# Altium integrated library Linear Technology Power Management Hot Swap Controllers.IntLib: 992 symbols (part 72 of 93)
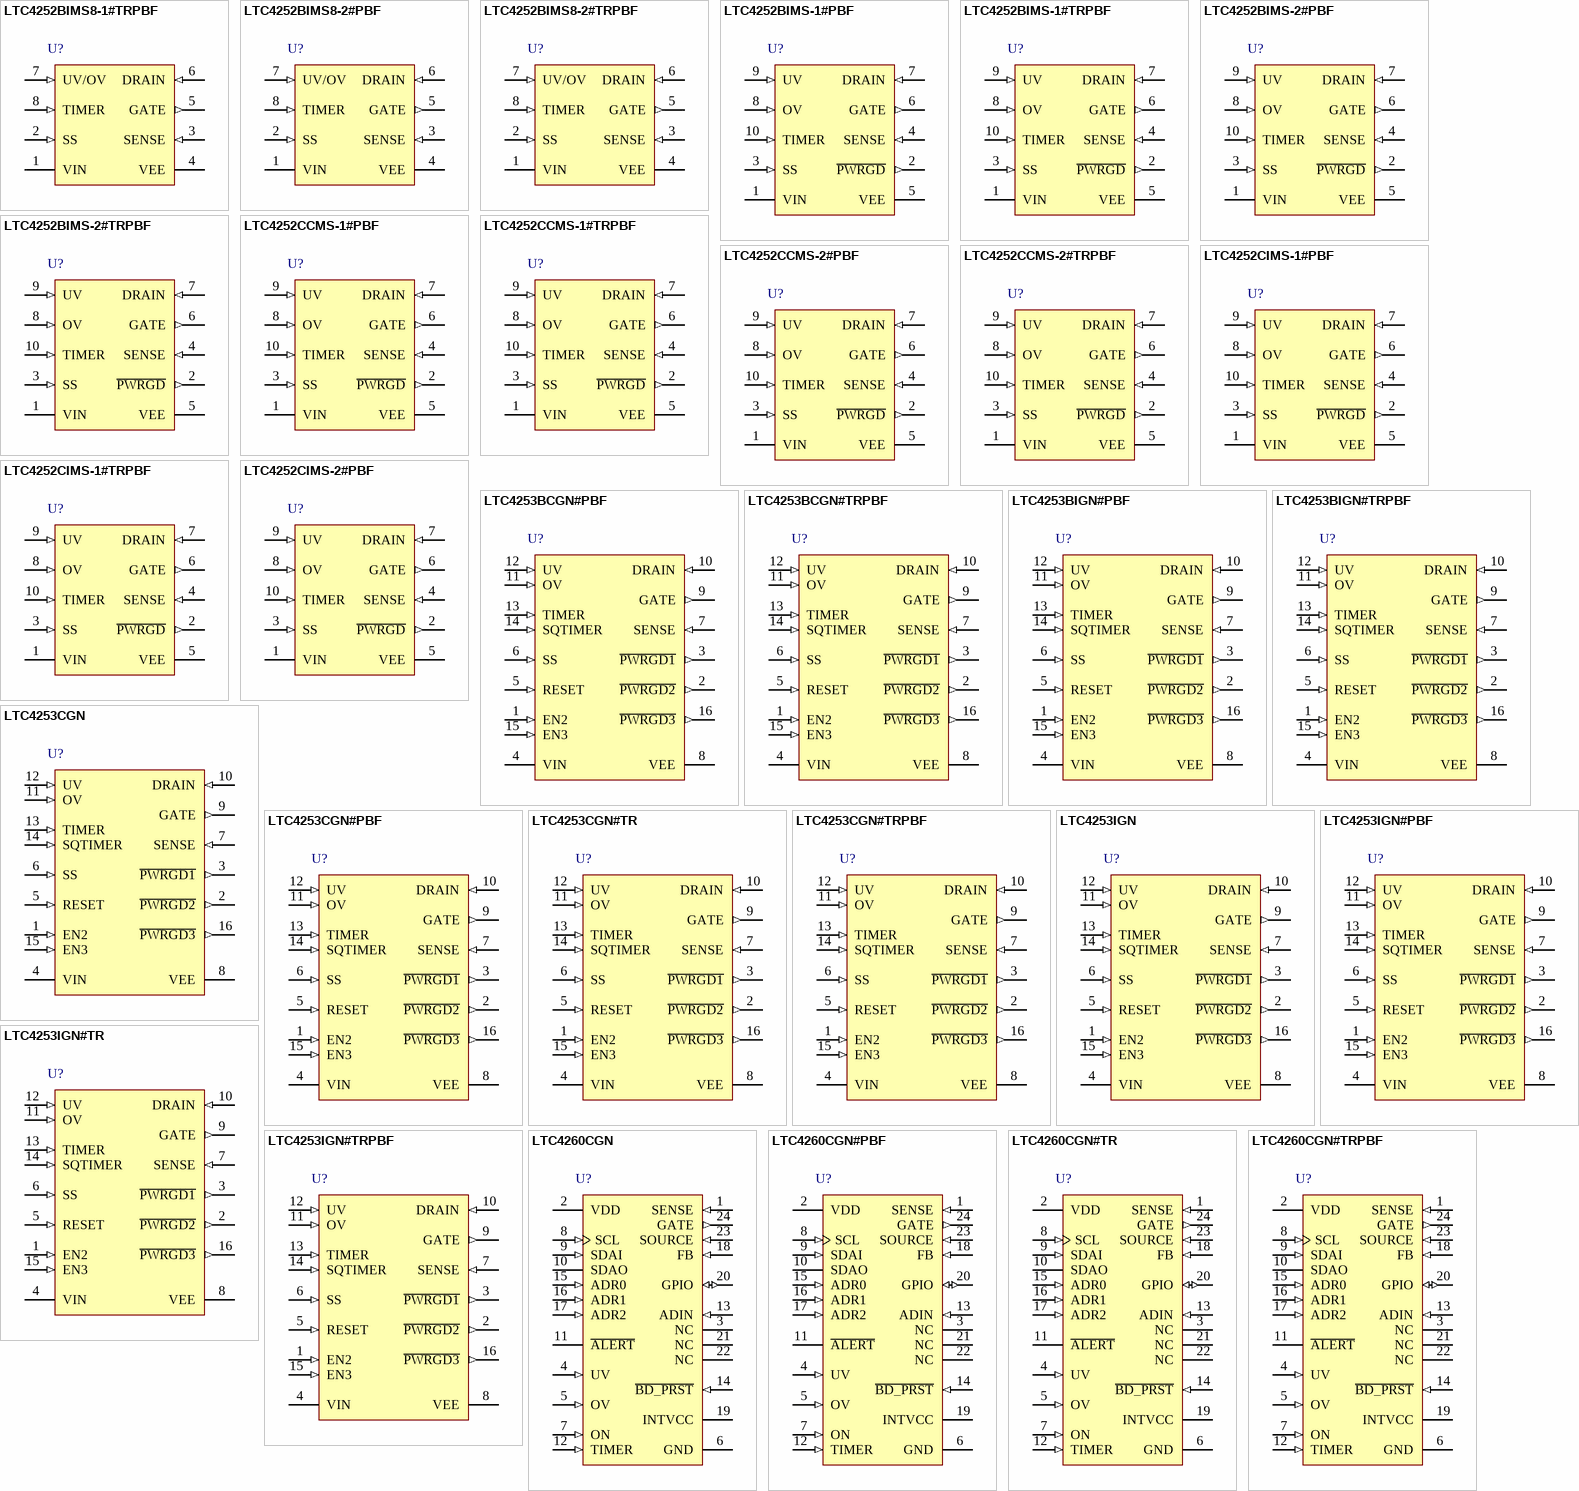
[diagram p108: symbols LTC4252BIMS8-1#TRPBF to LTC4260CGN#TRPBF]

## LTC4252CIMS-2#PBF
designator U?
Negative Voltage Hot Swap Controller, 10-pin SOP (MS-10), -40 to 85 degC, Pb-Free; Manufacturer: Linear Technology; PartNumber: LTC4252CIMS-2#PBF; Active Limiting: yes; Circuit Breaker Accuracy(%): 10; Circuit Breaker Threshold: 50 mV; Circuit Breakers(#): 1; Extended Temp: C, I; In-Rush Current: Active/SS; PackageVersion: Rev. E, 06/2010; PackageReference: MS-10; PackageDescription: 10-Pin Plastic MSOP, Body 3 x 3 mm, Pitch 0.5 mm; Supplier 1: Digi-Key; Supplier Part Number 1: LTC4252CIMS-2#PBF-ND; Supplier 2: Farnell; Supplier Part Number 2: 2097905; Supplier 3: Newark; Supplier Part Number 3: 82T3945; Fast Comparator: yes; Fault: yes; Foldback: yes; Power Good: yes; Reset: yes; RoHS: TRUE; Mounting Technology: Surface Mount; ComponentLink1Description: Manufacturer URL; ComponentLink1URL: http://www.linear.com/; ComponentLink2Description: Datasheet; ComponentLink2URL: http://cds.linear.com/docs/en/datasheet/4252b12f.pdf; ComponentLink3Description: Package Specification; ComponentLink3URL: http://cds.linear.com/docs/en/packaging/05081661_F_MS.pdf
footprint LT-MS-10_N (SOP, 10-Leads, Body 3.1x3.1mm, Pitch 0.5mm, IPC Medium Density)
footprint LT-MS-10_L (SOP, 10-Leads, Body 3.1x3.1mm, Pitch 0.5mm, IPC High Density)
footprint LT-MS-10_M (SOP, 10-Leads, Body 3.1x3.1mm, Pitch 0.5mm, IPC Low Density)
pins: 1 VIN (power) "Positive Supply Input. Connect this pin to the positive side of the supply through a dropping resistor. A shunt regulator clamps VIN at 13V. An internal undervoltage lockout (UVLO) circuit holds GATE low until the VIN pin is (See Datasheet)", 2 ~{PWRGD} (out) "Power Good Status Output (MS only). At start-up, P\W\R\G\D\ latches low if DRAIN is below 2.385V and GATE is within 2.8V of VIN. P\W\R\G\D\ status is reset by UV, VIN (UVLO) or a circuit breaker fault timeout. This pin is (See Datasheet)", 3 SS (in) "Soft-Start Pin. This pin is used to ramp inrush current during start up, thereby effecting control over di/dt. A 20x attenuated version of the SS pin voltage is presented to the current limit amplifier. This attenuated (See Datasheet)", 4 SENSE (in) "Circuit Breaker/Current Limit Sense Pin. Load current is monitored by a sense resistor RS connected between SENSE and VEE, and controlled in three steps. If SENSE exceeds VCB (50mV), the circuit breaker comparator activates (See Datasheet)", 5 VEE (power) "Negative Supply Voltage Input. Connect this pin to the negative side of the power supply.", 6 GATE (out) "N-Channel MOSFET Gate Drive Output. This pin is pulled high by a 58uA current source. GATE is pulled low by invalid conditions at VIN (UVLO), UV, OV, or a circuit breaker fault timeout. GATE is actively servoed to control (See Datasheet)", 7 DRAIN (in) "Drain Sense Input. Connecting an external resistor, RD, between this pin and the MOSFET’s drain (VOUT) allows voltage sensing below 6.15V (5V for LTC4252C) and current feedback to TIMER. A comparator detects if DRAIN i(See Datasheet)", 8 OV (in) "Overvoltage Input. The active high threshold at the OV pin is set at 6.15V with 0.6V hysteresis. If OV > 6.15V, GATE pulls low. When OV returns below 5.55V, GATE start-up begins without an initial timing cycle. The LTC4252C (See Datasheet)", 9 UV (in) "Undervoltage Input. The active low threshold at the UV pin is set at 2.925V with 0.3V hysteresis. If UV < 2.925V, P\W\R\G\D\ pulls high, both GATE and TIMER pull low. If UV rises above 3.225V, this initiates an initial (See Datasheet)", 10 TIMER (in) "Timer Input. TIMER is used to generate an initial timing delay at start-up and to delay shutdown in the event of an output overload (circuit breaker fault). TIMER starts an initial timing cycle when the following conditions (See Datasheet)"

## LTC4253BCGN#PBF
designator U?
-48 V Hot Swap Controller with Sequencer, 16-pin SOP (GN-16), 0 to 70 degC, Pb-Free; Manufacturer: Linear Technology; PartNumber: LTC4253BCGN#PBF; Active Limiting: yes; Circuit Breaker Accuracy(%): 20; Circuit Breaker Threshold: 50 mV; Circuit Breakers(#): 1; Extended Temp: C, I; In-Rush Current: Active/SS; PackageVersion: Rev. B, 03/2012; PackageReference: GN-16; PackageDescription: 16-Pin Plastic SSOP, Body 4.9 x 3.9 mm, Pitch 0.635 mm; Supplier 1: Digi-Key; Supplier Part Number 1: LTC4253BCGN#PBF-ND; Supplier 2: Farnell; Supplier Part Number 2: 2097893; Supplier 3: Newark; Supplier Part Number 3: 82T3947; Fast Comparator: yes; Fault: yes; Foldback: yes; Power Good: yes; Reset: yes; RoHS: TRUE; Mounting Technology: Surface Mount; ComponentLink1Description: Manufacturer URL; ComponentLink1URL: http://www.linear.com/; ComponentLink2Description: Datasheet; ComponentLink2URL: http://cds.linear.com/docs/en/datasheet/4253bf.pdf; ComponentLink3Description: Package Specification; ComponentLink3URL: http://cds.linear.com/docs/en/packaging/05081641_B_GN16.pdf
footprint LT-GN-16_N (SOP, 16-Leads, Body 5x4mm, Pitch 0.635mm, IPC Medium Density)
footprint LT-GN-16_L (SOP, 16-Leads, Body 5x4mm, Pitch 0.635mm, IPC High Density)
footprint LT-GN-16_M (SOP, 16-Leads, Body 5x4mm, Pitch 0.635mm, IPC Low Density)
pins: 1 EN2 (in) "Power Good Status Output Two Enable. This  is a TTL compatible input that is used to control P\W\R\G\D\2\ and P\W\R\G\D\3\ outputs. When EN2 is driven low, both  P\W\R\G\D\2\ and P\W\R\G\D\3\ will go high. When EN2 is driven (See Datasheet)", 2 ~{PWRGD2} (out) "Power Good Status Output Two. Power  good sequence starts with P\W\R\G\D\1\ latching active low.  P\W\R\G\D\2\ will latch active low after EN2 goes high and  after one power good sequence delay tSQT provided by the (See Datasheet)", 3 ~{PWRGD1} (out) "Power Good Status Output One. At startup, P\W\R\G\D\1\ latches active low and starts the power good  sequence when the DRAIN pin is below 2.39V and GATE  is within 2.8V of VIN. P\W\R\G\D\1\ status is reset by UV, VIN (UVLO), (See Datasheet)", 4 VIN (power) "Positive Supply Input. Connect this pin to the positive side of the supply through a dropping resistor. A  shunt regulator clamps VIN at 13V above VEE. An internal  undervoltage lockout (UVLO) circuit holds GATE low until  (See Datasheet)", 5 RESET (in) "Circuit Breaker Reset Pin. This is an asynchronous TTL compatible input. RESET going high will pull GATE, SS, TIMER, SQTIMER lowand the P\W\R\G\D\ outputs  high. The RESET pulse must be wide enough to discharge  any voltage (See Datasheet)", 6 SS (in) "Soft-Start Pin. This pin is used to ramp inrush  current during start up, there by effecting control over di/dt.  A 20X attenuated version of the SS pin voltage is presented  to the current limit amplifier. This attenuated (See Datasheet)", 7 SENSE (in) "Circuit Breaker/Current Limit Sense Pin.  Load current is monitored by a senseresistor RS connected between SENSE and VEE, and controlled in three steps. If SENSE exceeds VCB (50mV), the circuit breaker comparator activates (See Datasheet)", 8 VEE (power) "Negative Supply Voltage Input. Connect this  pin to the negative side of the power supply.", 9 GATE (out) "N-channel MOSFET Gate Drive Output. This  pin is pulled high by a 50uA current source. GATE is pulled  low by invalid conditions at VIN (UVLO), UV, OV, during the  initial timing cycle, a circuit breaker fault time-out or (See Datasheet)", 10 DRAIN (in) "Drain Sense Input. Connecting an external resistor, RD between this pin and the MOSFET’s drain  (VOUT) allows voltage sensing below 6.15V and current  feedback toTIMER. A comparator detects if DRAIN is below 2.39V an(See Datasheet)", 11 OV (in) "Overvoltage Input. For the LTC4253B, the  threshold at the OV pin is set at 6.15V with 0.3V hysteresis.  If OV > 6.15V, GATE pulls low. When OV returns below  5.85V, GATE start-up begins without an initial timing cycle. If (See Datasheet)", 12 UV (in) "Undervoltage Input. For the LTC4253B, the  threshold at the UV pin is set at 3.225V with 0.3V hysteresis. If UV < 2.925V, P\W\R\G\D\1\ pulls high, both GATE and  TIMER pull low. If UV rises above 3.225V, this initiates  an (See Datasheet)", 13 TIMER (in) "Timer Input. Timer is used to generate an initial timing delay at start-up, and to delay shutdown  in the event of an output overload (circuit breaker fault).  Timer starts an initial timing cycle when the following  (See Datasheet)", 14 SQTIMER (in) "Sequencing Timer Input. These quencing timer provides a delay tSQT for the power good sequencing. This delay is adjusted by connecting an appropriate capacitor to this pin. If the SQTIMER capacitor is omitted,  the SQTIMER (See Datasheet)", 15 EN3 (in) "Power Good Status Output Three Enable. This is a TTL compatible input that is used to control the  P\W\R\G\D\3\ output. When EN3 is driven low, P\W\R\G\D\3\ will  go high. When EN3 is driven high, P\W\R\G\D\3\ will go low  (See Datasheet)", 16 ~{PWRGD3} (out) "Power Good Status Output Three. Power good sequence starts with P\W\R\G\D\1\ latching active low.  P\W\R\G\D\3\ will latch active low after EN3 goes high and  after one power good sequence delay tSQT provided by  the (See Datasheet)"

## LTC4253BCGN#TRPBF
designator U?
-48 V Hot Swap Controller with Sequencer, 16-pin SOP (GN-16), 0 to 70 degC, Pb-Free, Tape and Reel; Manufacturer: Linear Technology; PartNumber: LTC4253BCGN#TRPBF; Active Limiting: yes; Circuit Breaker Accuracy(%): 20; Circuit Breaker Threshold: 50 mV; Circuit Breakers(#): 1; Extended Temp: C, I; In-Rush Current: Active/SS; PackageVersion: Rev. B, 03/2012; PackageReference: GN-16; PackageDescription: 16-Pin Plastic SSOP, Body 4.9 x 3.9 mm, Pitch 0.635 mm; Supplier 1: Digi-Key; Supplier Part Number 1: LTC4253BCGN#TRPBF-ND; Fast Comparator: yes; Fault: yes; Foldback: yes; Packing: Tape and Reel; Power Good: yes; Reset: yes; RoHS: TRUE; Mounting Technology: Surface Mount; ComponentLink1Description: Manufacturer URL; ComponentLink1URL: http://www.linear.com/; ComponentLink2Description: Datasheet; ComponentLink2URL: http://cds.linear.com/docs/en/datasheet/4253bf.pdf; ComponentLink3Description: Package Specification; ComponentLink3URL: http://cds.linear.com/docs/en/packaging/05081641_B_GN16.pdf
footprint LT-GN-16_N (SOP, 16-Leads, Body 5x4mm, Pitch 0.635mm, IPC Medium Density)
footprint LT-GN-16_L (SOP, 16-Leads, Body 5x4mm, Pitch 0.635mm, IPC High Density)
footprint LT-GN-16_M (SOP, 16-Leads, Body 5x4mm, Pitch 0.635mm, IPC Low Density)
pins: 1 EN2 (in) "Power Good Status Output Two Enable. This  is a TTL compatible input that is used to control P\W\R\G\D\2\ and P\W\R\G\D\3\ outputs. When EN2 is driven low, both  P\W\R\G\D\2\ and P\W\R\G\D\3\ will go high. When EN2 is driven (See Datasheet)", 2 ~{PWRGD2} (out) "Power Good Status Output Two. Power  good sequence starts with P\W\R\G\D\1\ latching active low.  P\W\R\G\D\2\ will latch active low after EN2 goes high and  after one power good sequence delay tSQT provided by the (See Datasheet)", 3 ~{PWRGD1} (out) "Power Good Status Output One. At startup, P\W\R\G\D\1\ latches active low and starts the power good  sequence when the DRAIN pin is below 2.39V and GATE  is within 2.8V of VIN. P\W\R\G\D\1\ status is reset by UV, VIN (UVLO), (See Datasheet)", 4 VIN (power) "Positive Supply Input. Connect this pin to the positive side of the supply through a dropping resistor. A  shunt regulator clamps VIN at 13V above VEE. An internal  undervoltage lockout (UVLO) circuit holds GATE low until  (See Datasheet)", 5 RESET (in) "Circuit Breaker Reset Pin. This is an asynchronous TTL compatible input. RESET going high will pull GATE, SS, TIMER, SQTIMER lowand the P\W\R\G\D\ outputs  high. The RESET pulse must be wide enough to discharge  any voltage (See Datasheet)", 6 SS (in) "Soft-Start Pin. This pin is used to ramp inrush  current during start up, there by effecting control over di/dt.  A 20X attenuated version of the SS pin voltage is presented  to the current limit amplifier. This attenuated (See Datasheet)", 7 SENSE (in) "Circuit Breaker/Current Limit Sense Pin.  Load current is monitored by a senseresistor RS connected between SENSE and VEE, and controlled in three steps. If SENSE exceeds VCB (50mV), the circuit breaker comparator activates (See Datasheet)", 8 VEE (power) "Negative Supply Voltage Input. Connect this  pin to the negative side of the power supply.", 9 GATE (out) "N-channel MOSFET Gate Drive Output. This  pin is pulled high by a 50uA current source. GATE is pulled  low by invalid conditions at VIN (UVLO), UV, OV, during the  initial timing cycle, a circuit breaker fault time-out or (See Datasheet)", 10 DRAIN (in) "Drain Sense Input. Connecting an external resistor, RD between this pin and the MOSFET’s drain  (VOUT) allows voltage sensing below 6.15V and current  feedback toTIMER. A comparator detects if DRAIN is below 2.39V an(See Datasheet)", 11 OV (in) "Overvoltage Input. For the LTC4253B, the  threshold at the OV pin is set at 6.15V with 0.3V hysteresis.  If OV > 6.15V, GATE pulls low. When OV returns below  5.85V, GATE start-up begins without an initial timing cycle. If (See Datasheet)", 12 UV (in) "Undervoltage Input. For the LTC4253B, the  threshold at the UV pin is set at 3.225V with 0.3V hysteresis. If UV < 2.925V, P\W\R\G\D\1\ pulls high, both GATE and  TIMER pull low. If UV rises above 3.225V, this initiates  an (See Datasheet)", 13 TIMER (in) "Timer Input. Timer is used to generate an initial timing delay at start-up, and to delay shutdown  in the event of an output overload (circuit breaker fault).  Timer starts an initial timing cycle when the following  (See Datasheet)", 14 SQTIMER (in) "Sequencing Timer Input. These quencing timer provides a delay tSQT for the power good sequencing. This delay is adjusted by connecting an appropriate capacitor to this pin. If the SQTIMER capacitor is omitted,  the SQTIMER (See Datasheet)", 15 EN3 (in) "Power Good Status Output Three Enable. This is a TTL compatible input that is used to control the  P\W\R\G\D\3\ output. When EN3 is driven low, P\W\R\G\D\3\ will  go high. When EN3 is driven high, P\W\R\G\D\3\ will go low  (See Datasheet)", 16 ~{PWRGD3} (out) "Power Good Status Output Three. Power good sequence starts with P\W\R\G\D\1\ latching active low.  P\W\R\G\D\3\ will latch active low after EN3 goes high and  after one power good sequence delay tSQT provided by  the (See Datasheet)"

## LTC4253BIGN#PBF
designator U?
-48 V Hot Swap Controller with Sequencer, 16-pin SOP (GN-16), -40 to 85 degC, Pb-Free; Manufacturer: Linear Technology; PartNumber: LTC4253BIGN#PBF; Active Limiting: yes; Circuit Breaker Accuracy(%): 20; Circuit Breaker Threshold: 50 mV; Circuit Breakers(#): 1; Extended Temp: C, I; In-Rush Current: Active/SS; PackageVersion: Rev. B, 03/2012; PackageReference: GN-16; PackageDescription: 16-Pin Plastic SSOP, Body 4.9 x 3.9 mm, Pitch 0.635 mm; Supplier 1: Digi-Key; Supplier Part Number 1: LTC4253BIGN#PBF-ND; Supplier 2: Farnell; Supplier Part Number 2: 2097894; Supplier 3: Newark; Supplier Part Number 3: 82T3949; Fast Comparator: yes; Fault: yes; Foldback: yes; Power Good: yes; Reset: yes; RoHS: TRUE; Mounting Technology: Surface Mount; ComponentLink1Description: Manufacturer URL; ComponentLink1URL: http://www.linear.com/; ComponentLink2Description: Datasheet; ComponentLink2URL: http://cds.linear.com/docs/en/datasheet/4253bf.pdf; ComponentLink3Description: Package Specification; ComponentLink3URL: http://cds.linear.com/docs/en/packaging/05081641_B_GN16.pdf
footprint LT-GN-16_N (SOP, 16-Leads, Body 5x4mm, Pitch 0.635mm, IPC Medium Density)
footprint LT-GN-16_L (SOP, 16-Leads, Body 5x4mm, Pitch 0.635mm, IPC High Density)
footprint LT-GN-16_M (SOP, 16-Leads, Body 5x4mm, Pitch 0.635mm, IPC Low Density)
pins: 1 EN2 (in) "Power Good Status Output Two Enable. This  is a TTL compatible input that is used to control P\W\R\G\D\2\ and P\W\R\G\D\3\ outputs. When EN2 is driven low, both  P\W\R\G\D\2\ and P\W\R\G\D\3\ will go high. When EN2 is driven (See Datasheet)", 2 ~{PWRGD2} (out) "Power Good Status Output Two. Power  good sequence starts with P\W\R\G\D\1\ latching active low.  P\W\R\G\D\2\ will latch active low after EN2 goes high and  after one power good sequence delay tSQT provided by the (See Datasheet)", 3 ~{PWRGD1} (out) "Power Good Status Output One. At startup, P\W\R\G\D\1\ latches active low and starts the power good  sequence when the DRAIN pin is below 2.39V and GATE  is within 2.8V of VIN. P\W\R\G\D\1\ status is reset by UV, VIN (UVLO), (See Datasheet)", 4 VIN (power) "Positive Supply Input. Connect this pin to the positive side of the supply through a dropping resistor. A  shunt regulator clamps VIN at 13V above VEE. An internal  undervoltage lockout (UVLO) circuit holds GATE low until  (See Datasheet)", 5 RESET (in) "Circuit Breaker Reset Pin. This is an asynchronous TTL compatible input. RESET going high will pull GATE, SS, TIMER, SQTIMER lowand the P\W\R\G\D\ outputs  high. The RESET pulse must be wide enough to discharge  any voltage (See Datasheet)", 6 SS (in) "Soft-Start Pin. This pin is used to ramp inrush  current during start up, there by effecting control over di/dt.  A 20X attenuated version of the SS pin voltage is presented  to the current limit amplifier. This attenuated (See Datasheet)", 7 SENSE (in) "Circuit Breaker/Current Limit Sense Pin.  Load current is monitored by a senseresistor RS connected between SENSE and VEE, and controlled in three steps. If SENSE exceeds VCB (50mV), the circuit breaker comparator activates (See Datasheet)", 8 VEE (power) "Negative Supply Voltage Input. Connect this  pin to the negative side of the power supply.", 9 GATE (out) "N-channel MOSFET Gate Drive Output. This  pin is pulled high by a 50uA current source. GATE is pulled  low by invalid conditions at VIN (UVLO), UV, OV, during the  initial timing cycle, a circuit breaker fault time-out or (See Datasheet)", 10 DRAIN (in) "Drain Sense Input. Connecting an external resistor, RD between this pin and the MOSFET’s drain  (VOUT) allows voltage sensing below 6.15V and current  feedback toTIMER. A comparator detects if DRAIN is below 2.39V an(See Datasheet)", 11 OV (in) "Overvoltage Input. For the LTC4253B, the  threshold at the OV pin is set at 6.15V with 0.3V hysteresis.  If OV > 6.15V, GATE pulls low. When OV returns below  5.85V, GATE start-up begins without an initial timing cycle. If (See Datasheet)", 12 UV (in) "Undervoltage Input. For the LTC4253B, the  threshold at the UV pin is set at 3.225V with 0.3V hysteresis. If UV < 2.925V, P\W\R\G\D\1\ pulls high, both GATE and  TIMER pull low. If UV rises above 3.225V, this initiates  an (See Datasheet)", 13 TIMER (in) "Timer Input. Timer is used to generate an initial timing delay at start-up, and to delay shutdown  in the event of an output overload (circuit breaker fault).  Timer starts an initial timing cycle when the following  (See Datasheet)", 14 SQTIMER (in) "Sequencing Timer Input. These quencing timer provides a delay tSQT for the power good sequencing. This delay is adjusted by connecting an appropriate capacitor to this pin. If the SQTIMER capacitor is omitted,  the SQTIMER (See Datasheet)", 15 EN3 (in) "Power Good Status Output Three Enable. This is a TTL compatible input that is used to control the  P\W\R\G\D\3\ output. When EN3 is driven low, P\W\R\G\D\3\ will  go high. When EN3 is driven high, P\W\R\G\D\3\ will go low  (See Datasheet)", 16 ~{PWRGD3} (out) "Power Good Status Output Three. Power good sequence starts with P\W\R\G\D\1\ latching active low.  P\W\R\G\D\3\ will latch active low after EN3 goes high and  after one power good sequence delay tSQT provided by  the (See Datasheet)"

## LTC4253BIGN#TRPBF
designator U?
-48 V Hot Swap Controller with Sequencer, 16-pin SOP (GN-16), -40 to 85 degC, Pb-Free, Tape and Reel; Manufacturer: Linear Technology; PartNumber: LTC4253BIGN#TRPBF; Active Limiting: yes; Circuit Breaker Accuracy(%): 20; Circuit Breaker Threshold: 50 mV; Circuit Breakers(#): 1; Extended Temp: C, I; In-Rush Current: Active/SS; PackageVersion: Rev. B, 03/2012; PackageReference: GN-16; PackageDescription: 16-Pin Plastic SSOP, Body 4.9 x 3.9 mm, Pitch 0.635 mm; Supplier 1: Digi-Key; Supplier Part Number 1: LTC4253BIGN#TRPBF-ND; Fast Comparator: yes; Fault: yes; Foldback: yes; Packing: Tape and Reel; Power Good: yes; Reset: yes; RoHS: TRUE; Mounting Technology: Surface Mount; ComponentLink1Description: Manufacturer URL; ComponentLink1URL: http://www.linear.com/; ComponentLink2Description: Datasheet; ComponentLink2URL: http://cds.linear.com/docs/en/datasheet/4253bf.pdf; ComponentLink3Description: Package Specification; ComponentLink3URL: http://cds.linear.com/docs/en/packaging/05081641_B_GN16.pdf
footprint LT-GN-16_N (SOP, 16-Leads, Body 5x4mm, Pitch 0.635mm, IPC Medium Density)
footprint LT-GN-16_L (SOP, 16-Leads, Body 5x4mm, Pitch 0.635mm, IPC High Density)
footprint LT-GN-16_M (SOP, 16-Leads, Body 5x4mm, Pitch 0.635mm, IPC Low Density)
pins: 1 EN2 (in) "Power Good Status Output Two Enable. This  is a TTL compatible input that is used to control P\W\R\G\D\2\ and P\W\R\G\D\3\ outputs. When EN2 is driven low, both  P\W\R\G\D\2\ and P\W\R\G\D\3\ will go high. When EN2 is driven (See Datasheet)", 2 ~{PWRGD2} (out) "Power Good Status Output Two. Power  good sequence starts with P\W\R\G\D\1\ latching active low.  P\W\R\G\D\2\ will latch active low after EN2 goes high and  after one power good sequence delay tSQT provided by the (See Datasheet)", 3 ~{PWRGD1} (out) "Power Good Status Output One. At startup, P\W\R\G\D\1\ latches active low and starts the power good  sequence when the DRAIN pin is below 2.39V and GATE  is within 2.8V of VIN. P\W\R\G\D\1\ status is reset by UV, VIN (UVLO), (See Datasheet)", 4 VIN (power) "Positive Supply Input. Connect this pin to the positive side of the supply through a dropping resistor. A  shunt regulator clamps VIN at 13V above VEE. An internal  undervoltage lockout (UVLO) circuit holds GATE low until  (See Datasheet)", 5 RESET (in) "Circuit Breaker Reset Pin. This is an asynchronous TTL compatible input. RESET going high will pull GATE, SS, TIMER, SQTIMER lowand the P\W\R\G\D\ outputs  high. The RESET pulse must be wide enough to discharge  any voltage (See Datasheet)", 6 SS (in) "Soft-Start Pin. This pin is used to ramp inrush  current during start up, there by effecting control over di/dt.  A 20X attenuated version of the SS pin voltage is presented  to the current limit amplifier. This attenuated (See Datasheet)", 7 SENSE (in) "Circuit Breaker/Current Limit Sense Pin.  Load current is monitored by a senseresistor RS connected between SENSE and VEE, and controlled in three steps. If SENSE exceeds VCB (50mV), the circuit breaker comparator activates (See Datasheet)", 8 VEE (power) "Negative Supply Voltage Input. Connect this  pin to the negative side of the power supply.", 9 GATE (out) "N-channel MOSFET Gate Drive Output. This  pin is pulled high by a 50uA current source. GATE is pulled  low by invalid conditions at VIN (UVLO), UV, OV, during the  initial timing cycle, a circuit breaker fault time-out or (See Datasheet)", 10 DRAIN (in) "Drain Sense Input. Connecting an external resistor, RD between this pin and the MOSFET’s drain  (VOUT) allows voltage sensing below 6.15V and current  feedback toTIMER. A comparator detects if DRAIN is below 2.39V an(See Datasheet)", 11 OV (in) "Overvoltage Input. For the LTC4253B, the  threshold at the OV pin is set at 6.15V with 0.3V hysteresis.  If OV > 6.15V, GATE pulls low. When OV returns below  5.85V, GATE start-up begins without an initial timing cycle. If (See Datasheet)", 12 UV (in) "Undervoltage Input. For the LTC4253B, the  threshold at the UV pin is set at 3.225V with 0.3V hysteresis. If UV < 2.925V, P\W\R\G\D\1\ pulls high, both GATE and  TIMER pull low. If UV rises above 3.225V, this initiates  an (See Datasheet)", 13 TIMER (in) "Timer Input. Timer is used to generate an initial timing delay at start-up, and to delay shutdown  in the event of an output overload (circuit breaker fault).  Timer starts an initial timing cycle when the following  (See Datasheet)", 14 SQTIMER (in) "Sequencing Timer Input. These quencing timer provides a delay tSQT for the power good sequencing. This delay is adjusted by connecting an appropriate capacitor to this pin. If the SQTIMER capacitor is omitted,  the SQTIMER (See Datasheet)", 15 EN3 (in) "Power Good Status Output Three Enable. This is a TTL compatible input that is used to control the  P\W\R\G\D\3\ output. When EN3 is driven low, P\W\R\G\D\3\ will  go high. When EN3 is driven high, P\W\R\G\D\3\ will go low  (See Datasheet)", 16 ~{PWRGD3} (out) "Power Good Status Output Three. Power good sequence starts with P\W\R\G\D\1\ latching active low.  P\W\R\G\D\3\ will latch active low after EN3 goes high and  after one power good sequence delay tSQT provided by  the (See Datasheet)"

## LTC4253CGN
designator U?
-48 V Hot Swap Controller with Sequencer, 16-pin SOP (GN-16), 0 to 70 degC; Manufacturer: Linear Technology; PartNumber: LTC4253CGN; Active Limiting: yes; Circuit Breaker Accuracy(%): 20; Circuit Breaker Threshold: 50 mV; Circuit Breakers(#): 1; Extended Temp: C, I; In-Rush Current: Active/SS; PackageVersion: Rev. B, 03/2012; PackageReference: GN-16; PackageDescription: 16-Pin Plastic SSOP, Body 4.9 x 3.9 mm, Pitch 0.635 mm; Supplier 1: Digi-Key; Supplier Part Number 1: LTC4253CGN-ND; Fast Comparator: yes; Fault: yes; Foldback: yes; Power Good: yes; Reset: yes; RoHS: FALSE; Mounting Technology: Surface Mount; ComponentLink1Description: Manufacturer URL; ComponentLink1URL: http://www.linear.com/; ComponentLink2Description: Datasheet; ComponentLink2URL: http://cds.linear.com/docs/en/datasheet/4253bf.pdf; ComponentLink3Description: Package Specification; ComponentLink3URL: http://cds.linear.com/docs/en/packaging/05081641_B_GN16.pdf
footprint LT-GN-16_N (SOP, 16-Leads, Body 5x4mm, Pitch 0.635mm, IPC Medium Density)
footprint LT-GN-16_L (SOP, 16-Leads, Body 5x4mm, Pitch 0.635mm, IPC High Density)
footprint LT-GN-16_M (SOP, 16-Leads, Body 5x4mm, Pitch 0.635mm, IPC Low Density)
pins: 1 EN2 (in) "Power Good Status Output Two Enable. This  is a TTL compatible input that is used to control P\W\R\G\D\2\ and P\W\R\G\D\3\ outputs. When EN2 is driven low, both  P\W\R\G\D\2\ and P\W\R\G\D\3\ will go high. When EN2 is driven (See Datasheet)", 2 ~{PWRGD2} (out) "Power Good Status Output Two. Power  good sequence starts with P\W\R\G\D\1\ latching active low.  P\W\R\G\D\2\ will latch active low after EN2 goes high and  after one power good sequence delay tSQT provided by the (See Datasheet)", 3 ~{PWRGD1} (out) "Power Good Status Output One. At startup, P\W\R\G\D\1\ latches active low and starts the power good  sequence when the DRAIN pin is below 2.39V and GATE  is within 2.8V of VIN. P\W\R\G\D\1\ status is reset by UV, VIN (UVLO), (See Datasheet)", 4 VIN (power) "Positive Supply Input. Connect this pin to the positive side of the supply through a dropping resistor. A  shunt regulator clamps VIN at 13V above VEE. An internal  undervoltage lockout (UVLO) circuit holds GATE low until  (See Datasheet)", 5 RESET (in) "Circuit Breaker Reset Pin. This is an asynchronous TTL compatible input. RESET going high will pull GATE, SS, TIMER, SQTIMER lowand the P\W\R\G\D\ outputs  high. The RESET pulse must be wide enough to discharge  any voltage (See Datasheet)", 6 SS (in) "Soft-Start Pin. This pin is used to ramp inrush  current during start up, there by effecting control over di/dt.  A 20X attenuated version of the SS pin voltage is presented  to the current limit amplifier. This attenuated (See Datasheet)", 7 SENSE (in) "Circuit Breaker/Current Limit Sense Pin.  Load current is monitored by a senseresistor RS connected between SENSE and VEE, and controlled in three steps. If SENSE exceeds VCB (50mV), the circuit breaker comparator activates (See Datasheet)", 8 VEE (power) "Negative Supply Voltage Input. Connect this  pin to the negative side of the power supply.", 9 GATE (out) "N-channel MOSFET Gate Drive Output. This  pin is pulled high by a 50uA current source. GATE is pulled  low by invalid conditions at VIN (UVLO), UV, OV, during the  initial timing cycle, a circuit breaker fault time-out or (See Datasheet)", 10 DRAIN (in) "Drain Sense Input. Connecting an external resistor, RD between this pin and the MOSFET’s drain  (VOUT) allows voltage sensing below 6.15V and current  feedback toTIMER. A comparator detects if DRAIN is below 2.39V an(See Datasheet)", 11 OV (in) "Overvoltage Input. For the LTC4253B, the  threshold at the OV pin is set at 6.15V with 0.3V hysteresis.  If OV > 6.15V, GATE pulls low. When OV returns below  5.85V, GATE start-up begins without an initial timing cycle. If (See Datasheet)", 12 UV (in) "Undervoltage Input. For the LTC4253B, the  threshold at the UV pin is set at 3.225V with 0.3V hysteresis. If UV < 2.925V, P\W\R\G\D\1\ pulls high, both GATE and  TIMER pull low. If UV rises above 3.225V, this initiates  an (See Datasheet)", 13 TIMER (in) "Timer Input. Timer is used to generate an initial timing delay at start-up, and to delay shutdown  in the event of an output overload (circuit breaker fault).  Timer starts an initial timing cycle when the following  (See Datasheet)", 14 SQTIMER (in) "Sequencing Timer Input. These quencing timer provides a delay tSQT for the power good sequencing. This delay is adjusted by connecting an appropriate capacitor to this pin. If the SQTIMER capacitor is omitted,  the SQTIMER (See Datasheet)", 15 EN3 (in) "Power Good Status Output Three Enable. This is a TTL compatible input that is used to control the  P\W\R\G\D\3\ output. When EN3 is driven low, P\W\R\G\D\3\ will  go high. When EN3 is driven high, P\W\R\G\D\3\ will go low  (See Datasheet)", 16 ~{PWRGD3} (out) "Power Good Status Output Three. Power good sequence starts with P\W\R\G\D\1\ latching active low.  P\W\R\G\D\3\ will latch active low after EN3 goes high and  after one power good sequence delay tSQT provided by  the (See Datasheet)"

## LTC4253CGN#PBF
designator U?
-48 V Hot Swap Controller with Sequencer, 16-pin SOP (GN-16), 0 to 70 degC, Pb-Free; Manufacturer: Linear Technology; PartNumber: LTC4253CGN#PBF; Active Limiting: yes; Circuit Breaker Accuracy(%): 20; Circuit Breaker Threshold: 50 mV; Circuit Breakers(#): 1; Extended Temp: C, I; In-Rush Current: Active/SS; PackageVersion: Rev. B, 03/2012; PackageReference: GN-16; PackageDescription: 16-Pin Plastic SSOP, Body 4.9 x 3.9 mm, Pitch 0.635 mm; Supplier 1: Digi-Key; Supplier Part Number 1: LTC4253CGN#PBF-ND; Fast Comparator: yes; Fault: yes; Foldback: yes; Power Good: yes; Reset: yes; RoHS: TRUE; Mounting Technology: Surface Mount; ComponentLink1Description: Manufacturer URL; ComponentLink1URL: http://www.linear.com/; ComponentLink2Description: Datasheet; ComponentLink2URL: http://cds.linear.com/docs/en/datasheet/4253bf.pdf; ComponentLink3Description: Package Specification; ComponentLink3URL: http://cds.linear.com/docs/en/packaging/05081641_B_GN16.pdf
footprint LT-GN-16_N (SOP, 16-Leads, Body 5x4mm, Pitch 0.635mm, IPC Medium Density)
footprint LT-GN-16_L (SOP, 16-Leads, Body 5x4mm, Pitch 0.635mm, IPC High Density)
footprint LT-GN-16_M (SOP, 16-Leads, Body 5x4mm, Pitch 0.635mm, IPC Low Density)
pins: 1 EN2 (in) "Power Good Status Output Two Enable. This  is a TTL compatible input that is used to control P\W\R\G\D\2\ and P\W\R\G\D\3\ outputs. When EN2 is driven low, both  P\W\R\G\D\2\ and P\W\R\G\D\3\ will go high. When EN2 is driven (See Datasheet)", 2 ~{PWRGD2} (out) "Power Good Status Output Two. Power  good sequence starts with P\W\R\G\D\1\ latching active low.  P\W\R\G\D\2\ will latch active low after EN2 goes high and  after one power good sequence delay tSQT provided by the (See Datasheet)", 3 ~{PWRGD1} (out) "Power Good Status Output One. At startup, P\W\R\G\D\1\ latches active low and starts the power good  sequence when the DRAIN pin is below 2.39V and GATE  is within 2.8V of VIN. P\W\R\G\D\1\ status is reset by UV, VIN (UVLO), (See Datasheet)", 4 VIN (power) "Positive Supply Input. Connect this pin to the positive side of the supply through a dropping resistor. A  shunt regulator clamps VIN at 13V above VEE. An internal  undervoltage lockout (UVLO) circuit holds GATE low until  (See Datasheet)", 5 RESET (in) "Circuit Breaker Reset Pin. This is an asynchronous TTL compatible input. RESET going high will pull GATE, SS, TIMER, SQTIMER lowand the P\W\R\G\D\ outputs  high. The RESET pulse must be wide enough to discharge  any voltage (See Datasheet)", 6 SS (in) "Soft-Start Pin. This pin is used to ramp inrush  current during start up, there by effecting control over di/dt.  A 20X attenuated version of the SS pin voltage is presented  to the current limit amplifier. This attenuated (See Datasheet)", 7 SENSE (in) "Circuit Breaker/Current Limit Sense Pin.  Load current is monitored by a senseresistor RS connected between SENSE and VEE, and controlled in three steps. If SENSE exceeds VCB (50mV), the circuit breaker comparator activates (See Datasheet)", 8 VEE (power) "Negative Supply Voltage Input. Connect this  pin to the negative side of the power supply.", 9 GATE (out) "N-channel MOSFET Gate Drive Output. This  pin is pulled high by a 50uA current source. GATE is pulled  low by invalid conditions at VIN (UVLO), UV, OV, during the  initial timing cycle, a circuit breaker fault time-out or (See Datasheet)", 10 DRAIN (in) "Drain Sense Input. Connecting an external resistor, RD between this pin and the MOSFET’s drain  (VOUT) allows voltage sensing below 6.15V and current  feedback toTIMER. A comparator detects if DRAIN is below 2.39V an(See Datasheet)", 11 OV (in) "Overvoltage Input. For the LTC4253B, the  threshold at the OV pin is set at 6.15V with 0.3V hysteresis.  If OV > 6.15V, GATE pulls low. When OV returns below  5.85V, GATE start-up begins without an initial timing cycle. If (See Datasheet)", 12 UV (in) "Undervoltage Input. For the LTC4253B, the  threshold at the UV pin is set at 3.225V with 0.3V hysteresis. If UV < 2.925V, P\W\R\G\D\1\ pulls high, both GATE and  TIMER pull low. If UV rises above 3.225V, this initiates  an (See Datasheet)", 13 TIMER (in) "Timer Input. Timer is used to generate an initial timing delay at start-up, and to delay shutdown  in the event of an output overload (circuit breaker fault).  Timer starts an initial timing cycle when the following  (See Datasheet)", 14 SQTIMER (in) "Sequencing Timer Input. These quencing timer provides a delay tSQT for the power good sequencing. This delay is adjusted by connecting an appropriate capacitor to this pin. If the SQTIMER capacitor is omitted,  the SQTIMER (See Datasheet)", 15 EN3 (in) "Power Good Status Output Three Enable. This is a TTL compatible input that is used to control the  P\W\R\G\D\3\ output. When EN3 is driven low, P\W\R\G\D\3\ will  go high. When EN3 is driven high, P\W\R\G\D\3\ will go low  (See Datasheet)", 16 ~{PWRGD3} (out) "Power Good Status Output Three. Power good sequence starts with P\W\R\G\D\1\ latching active low.  P\W\R\G\D\3\ will latch active low after EN3 goes high and  after one power good sequence delay tSQT provided by  the (See Datasheet)"

## LTC4253CGN#TR
designator U?
-48 V Hot Swap Controller with Sequencer, 16-pin SOP (GN-16), 0 to 70 degC, Tape and Reel; Manufacturer: Linear Technology; PartNumber: LTC4253CGN#TR; Active Limiting: yes; Circuit Breaker Accuracy(%): 20; Circuit Breaker Threshold: 50 mV; Circuit Breakers(#): 1; Extended Temp: C, I; In-Rush Current: Active/SS; PackageVersion: Rev. B, 03/2012; PackageReference: GN-16; PackageDescription: 16-Pin Plastic SSOP, Body 4.9 x 3.9 mm, Pitch 0.635 mm; Supplier 1: Digi-Key; Supplier Part Number 1: LTC4253CGNTR-ND; Fast Comparator: yes; Fault: yes; Foldback: yes; Packing: Tape and Reel; Power Good: yes; Reset: yes; RoHS: FALSE; Mounting Technology: Surface Mount; ComponentLink1Description: Manufacturer URL; ComponentLink1URL: http://www.linear.com/; ComponentLink2Description: Datasheet; ComponentLink2URL: http://cds.linear.com/docs/en/datasheet/4253bf.pdf; ComponentLink3Description: Package Specification; ComponentLink3URL: http://cds.linear.com/docs/en/packaging/05081641_B_GN16.pdf
footprint LT-GN-16_N (SOP, 16-Leads, Body 5x4mm, Pitch 0.635mm, IPC Medium Density)
footprint LT-GN-16_L (SOP, 16-Leads, Body 5x4mm, Pitch 0.635mm, IPC High Density)
footprint LT-GN-16_M (SOP, 16-Leads, Body 5x4mm, Pitch 0.635mm, IPC Low Density)
pins: 1 EN2 (in) "Power Good Status Output Two Enable. This  is a TTL compatible input that is used to control P\W\R\G\D\2\ and P\W\R\G\D\3\ outputs. When EN2 is driven low, both  P\W\R\G\D\2\ and P\W\R\G\D\3\ will go high. When EN2 is driven (See Datasheet)", 2 ~{PWRGD2} (out) "Power Good Status Output Two. Power  good sequence starts with P\W\R\G\D\1\ latching active low.  P\W\R\G\D\2\ will latch active low after EN2 goes high and  after one power good sequence delay tSQT provided by the (See Datasheet)", 3 ~{PWRGD1} (out) "Power Good Status Output One. At startup, P\W\R\G\D\1\ latches active low and starts the power good  sequence when the DRAIN pin is below 2.39V and GATE  is within 2.8V of VIN. P\W\R\G\D\1\ status is reset by UV, VIN (UVLO), (See Datasheet)", 4 VIN (power) "Positive Supply Input. Connect this pin to the positive side of the supply through a dropping resistor. A  shunt regulator clamps VIN at 13V above VEE. An internal  undervoltage lockout (UVLO) circuit holds GATE low until  (See Datasheet)", 5 RESET (in) "Circuit Breaker Reset Pin. This is an asynchronous TTL compatible input. RESET going high will pull GATE, SS, TIMER, SQTIMER lowand the P\W\R\G\D\ outputs  high. The RESET pulse must be wide enough to discharge  any voltage (See Datasheet)", 6 SS (in) "Soft-Start Pin. This pin is used to ramp inrush  current during start up, there by effecting control over di/dt.  A 20X attenuated version of the SS pin voltage is presented  to the current limit amplifier. This attenuated (See Datasheet)", 7 SENSE (in) "Circuit Breaker/Current Limit Sense Pin.  Load current is monitored by a senseresistor RS connected between SENSE and VEE, and controlled in three steps. If SENSE exceeds VCB (50mV), the circuit breaker comparator activates (See Datasheet)", 8 VEE (power) "Negative Supply Voltage Input. Connect this  pin to the negative side of the power supply.", 9 GATE (out) "N-channel MOSFET Gate Drive Output. This  pin is pulled high by a 50uA current source. GATE is pulled  low by invalid conditions at VIN (UVLO), UV, OV, during the  initial timing cycle, a circuit breaker fault time-out or (See Datasheet)", 10 DRAIN (in) "Drain Sense Input. Connecting an external resistor, RD between this pin and the MOSFET’s drain  (VOUT) allows voltage sensing below 6.15V and current  feedback toTIMER. A comparator detects if DRAIN is below 2.39V an(See Datasheet)", 11 OV (in) "Overvoltage Input. For the LTC4253B, the  threshold at the OV pin is set at 6.15V with 0.3V hysteresis.  If OV > 6.15V, GATE pulls low. When OV returns below  5.85V, GATE start-up begins without an initial timing cycle. If (See Datasheet)", 12 UV (in) "Undervoltage Input. For the LTC4253B, the  threshold at the UV pin is set at 3.225V with 0.3V hysteresis. If UV < 2.925V, P\W\R\G\D\1\ pulls high, both GATE and  TIMER pull low. If UV rises above 3.225V, this initiates  an (See Datasheet)", 13 TIMER (in) "Timer Input. Timer is used to generate an initial timing delay at start-up, and to delay shutdown  in the event of an output overload (circuit breaker fault).  Timer starts an initial timing cycle when the following  (See Datasheet)", 14 SQTIMER (in) "Sequencing Timer Input. These quencing timer provides a delay tSQT for the power good sequencing. This delay is adjusted by connecting an appropriate capacitor to this pin. If the SQTIMER capacitor is omitted,  the SQTIMER (See Datasheet)", 15 EN3 (in) "Power Good Status Output Three Enable. This is a TTL compatible input that is used to control the  P\W\R\G\D\3\ output. When EN3 is driven low, P\W\R\G\D\3\ will  go high. When EN3 is driven high, P\W\R\G\D\3\ will go low  (See Datasheet)", 16 ~{PWRGD3} (out) "Power Good Status Output Three. Power good sequence starts with P\W\R\G\D\1\ latching active low.  P\W\R\G\D\3\ will latch active low after EN3 goes high and  after one power good sequence delay tSQT provided by  the (See Datasheet)"

## LTC4253CGN#TRPBF
designator U?
-48 V Hot Swap Controller with Sequencer, 16-pin SOP (GN-16), 0 to 70 degC, Pb-Free, Tape and Reel; Manufacturer: Linear Technology; PartNumber: LTC4253CGN#TRPBF; Active Limiting: yes; Circuit Breaker Accuracy(%): 20; Circuit Breaker Threshold: 50 mV; Circuit Breakers(#): 1; Extended Temp: C, I; In-Rush Current: Active/SS; PackageVersion: Rev. B, 03/2012; PackageReference: GN-16; PackageDescription: 16-Pin Plastic SSOP, Body 4.9 x 3.9 mm, Pitch 0.635 mm; Supplier 1: Digi-Key; Supplier Part Number 1: LTC4253CGN#TRPBF-ND; Fast Comparator: yes; Fault: yes; Foldback: yes; Packing: Tape and Reel; Power Good: yes; Reset: yes; RoHS: TRUE; Mounting Technology: Surface Mount; ComponentLink1Description: Manufacturer URL; ComponentLink1URL: http://www.linear.com/; ComponentLink2Description: Datasheet; ComponentLink2URL: http://cds.linear.com/docs/en/datasheet/4253bf.pdf; ComponentLink3Description: Package Specification; ComponentLink3URL: http://cds.linear.com/docs/en/packaging/05081641_B_GN16.pdf
footprint LT-GN-16_N (SOP, 16-Leads, Body 5x4mm, Pitch 0.635mm, IPC Medium Density)
footprint LT-GN-16_L (SOP, 16-Leads, Body 5x4mm, Pitch 0.635mm, IPC High Density)
footprint LT-GN-16_M (SOP, 16-Leads, Body 5x4mm, Pitch 0.635mm, IPC Low Density)
pins: 1 EN2 (in) "Power Good Status Output Two Enable. This  is a TTL compatible input that is used to control P\W\R\G\D\2\ and P\W\R\G\D\3\ outputs. When EN2 is driven low, both  P\W\R\G\D\2\ and P\W\R\G\D\3\ will go high. When EN2 is driven (See Datasheet)", 2 ~{PWRGD2} (out) "Power Good Status Output Two. Power  good sequence starts with P\W\R\G\D\1\ latching active low.  P\W\R\G\D\2\ will latch active low after EN2 goes high and  after one power good sequence delay tSQT provided by the (See Datasheet)", 3 ~{PWRGD1} (out) "Power Good Status Output One. At startup, P\W\R\G\D\1\ latches active low and starts the power good  sequence when the DRAIN pin is below 2.39V and GATE  is within 2.8V of VIN. P\W\R\G\D\1\ status is reset by UV, VIN (UVLO), (See Datasheet)", 4 VIN (power) "Positive Supply Input. Connect this pin to the positive side of the supply through a dropping resistor. A  shunt regulator clamps VIN at 13V above VEE. An internal  undervoltage lockout (UVLO) circuit holds GATE low until  (See Datasheet)", 5 RESET (in) "Circuit Breaker Reset Pin. This is an asynchronous TTL compatible input. RESET going high will pull GATE, SS, TIMER, SQTIMER lowand the P\W\R\G\D\ outputs  high. The RESET pulse must be wide enough to discharge  any voltage (See Datasheet)", 6 SS (in) "Soft-Start Pin. This pin is used to ramp inrush  current during start up, there by effecting control over di/dt.  A 20X attenuated version of the SS pin voltage is presented  to the current limit amplifier. This attenuated (See Datasheet)", 7 SENSE (in) "Circuit Breaker/Current Limit Sense Pin.  Load current is monitored by a senseresistor RS connected between SENSE and VEE, and controlled in three steps. If SENSE exceeds VCB (50mV), the circuit breaker comparator activates (See Datasheet)", 8 VEE (power) "Negative Supply Voltage Input. Connect this  pin to the negative side of the power supply.", 9 GATE (out) "N-channel MOSFET Gate Drive Output. This  pin is pulled high by a 50uA current source. GATE is pulled  low by invalid conditions at VIN (UVLO), UV, OV, during the  initial timing cycle, a circuit breaker fault time-out or (See Datasheet)", 10 DRAIN (in) "Drain Sense Input. Connecting an external resistor, RD between this pin and the MOSFET’s drain  (VOUT) allows voltage sensing below 6.15V and current  feedback toTIMER. A comparator detects if DRAIN is below 2.39V an(See Datasheet)", 11 OV (in) "Overvoltage Input. For the LTC4253B, the  threshold at the OV pin is set at 6.15V with 0.3V hysteresis.  If OV > 6.15V, GATE pulls low. When OV returns below  5.85V, GATE start-up begins without an initial timing cycle. If (See Datasheet)", 12 UV (in) "Undervoltage Input. For the LTC4253B, the  threshold at the UV pin is set at 3.225V with 0.3V hysteresis. If UV < 2.925V, P\W\R\G\D\1\ pulls high, both GATE and  TIMER pull low. If UV rises above 3.225V, this initiates  an (See Datasheet)", 13 TIMER (in) "Timer Input. Timer is used to generate an initial timing delay at start-up, and to delay shutdown  in the event of an output overload (circuit breaker fault).  Timer starts an initial timing cycle when the following  (See Datasheet)", 14 SQTIMER (in) "Sequencing Timer Input. These quencing timer provides a delay tSQT for the power good sequencing. This delay is adjusted by connecting an appropriate capacitor to this pin. If the SQTIMER capacitor is omitted,  the SQTIMER (See Datasheet)", 15 EN3 (in) "Power Good Status Output Three Enable. This is a TTL compatible input that is used to control the  P\W\R\G\D\3\ output. When EN3 is driven low, P\W\R\G\D\3\ will  go high. When EN3 is driven high, P\W\R\G\D\3\ will go low  (See Datasheet)", 16 ~{PWRGD3} (out) "Power Good Status Output Three. Power good sequence starts with P\W\R\G\D\1\ latching active low.  P\W\R\G\D\3\ will latch active low after EN3 goes high and  after one power good sequence delay tSQT provided by  the (See Datasheet)"